# Altium schematic symbol library WE-SHC-SMD.Schlib: 5 symbols
Pins are listed as number, name and electrical type; pins without a type are passive.

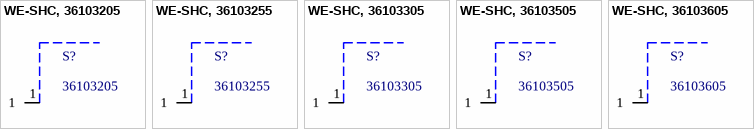
[diagram p0: symbols WE-SHC, 36103205 to WE-SHC, 36103605]

## WE-SHC, 36103205
designator S?, comment 36103205
Shielding Cabinet WE-SHC; Manufacturer: Würth Elektronik eiSos GmbH; partNo: 36103205; ComponentLink1Description: Manufacturer; ComponentLink1URL: http://www.we-online.de; Created by: Christin Zierenner; Created Date: May 2012; ComponentLink2Description: Datasheet; ComponentLink2URL: http://katalog.we-online.de/kataloge/eisos/media/pdf/36103205.pdf
footprint WE-SHC, 36103205 (Shielding Cabinet WE-SHC,FRAME SMD,20mmX20mm)
pins: 1

## WE-SHC, 36103255
designator S?, comment 36103255
Shielding Cabinet WE-SHC; Manufacturer: Würth Elektronik eiSos GmbH; partNo: 36103255; ComponentLink1Description: Manufacturer; ComponentLink1URL: http://www.we-online.de; Created by: Christin Zierenner; Created Date: May 2012; ComponentLink2Description: Datasheet; ComponentLink2URL: http://katalog.we-online.de/kataloge/eisos/media/pdf/36103255.pdf
footprint WE-SHC, 36103255 (Shielding Cabinet WE-SHC,FRAME SMD,25mmX25mm)
pins: 1

## WE-SHC, 36103305
designator S?, comment 36103305
Shielding Cabinet WE-SHC; Manufacturer: Würth Elektronik eiSos GmbH; partNo: 36103305; ComponentLink1Description: Manufacturer; ComponentLink1URL: http://www.we-online.de; Created by: Christin Zierenner; Created Date: May 2012; ComponentLink2Description: Datasheet; ComponentLink2URL: http://katalog.we-online.de/kataloge/eisos/media/pdf/36103305.pdf
footprint WE-SHC, 36103305 (Shielding Cabinet WE-SHC,FRAME SMD,30mmX30mm)
pins: 1

## WE-SHC, 36103505
designator S?, comment 36103505
Shielding Cabinet WE-SHC; Manufacturer: Würth Elektronik eiSos GmbH; partNo: 36103505; ComponentLink1Description: Manufacturer; ComponentLink1URL: http://www.we-online.de; Created by: Christin Zierenner; Created Date: May 2012; ComponentLink2Description: Datasheet; ComponentLink2URL: http://katalog.we-online.de/kataloge/eisos/media/pdf/36103505.pdf
footprint WE-SHC, 36103505 (Shielding Cabinet WE-SHC,FRAME SMD,50mmX50mm)
pins: 1

## WE-SHC, 36103605
designator S?, comment 36103605
Shielding Cabinet WE-SHC; Manufacturer: Würth Elektronik eiSos GmbH; partNo: 36103605; ComponentLink1Description: Manufacturer; ComponentLink1URL: http://www.we-online.de; Created by: Christin Zierenner; Created Date: May 2012; ComponentLink2Description: Datasheet; ComponentLink2URL: http://katalog.we-online.de/kataloge/eisos/media/pdf/36103605.pdf
footprint WE-SHC, 36103605 (Shielding Cabinet WE-SHC,FRAME SMD,60mmX60mm)
pins: 1